# EAGLE library part MMBZ5245BTS-7-F (library HyTechDevices)
15V Zener Diode Array 3 Independent with SOT363 footprint. Datasheet <https://www.mouser.com/datasheet/2/115/ds30184-1382386.pdf>
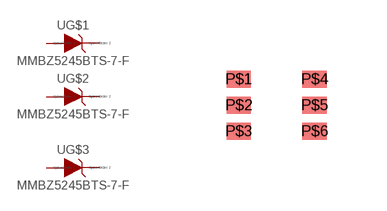
[diagram p35: symbol with the pads of SOT363; footprint SOT363]

Designator prefix -; gates G$1=DIODE_ZENER G$2=DIODE_ZENER G$3=DIODE_ZENER

## MMBZ5245BTS-7-F (VOLTAGE: 15V)  [SOT363]
P$1  G$1:A  pas
P$2  G$2:A  pas
P$3  G$3:A  pas
P$4  G$1:C  pas
P$5  G$2:C  pas
P$6  G$3:C  pas

## Footprint SOT363 (pad centres in mm)
SOT363 Package
smd 0.61 x 0.432: P$1 -0.965,0.673; P$2 -0.965,0.023; P$3 -0.965,-0.627; P$4 0.93,0.673; P$5 0.93,0.023; P$6 0.93,-0.627